# EAGLE library part LSM6DSO (library SparkFun-Sensors)
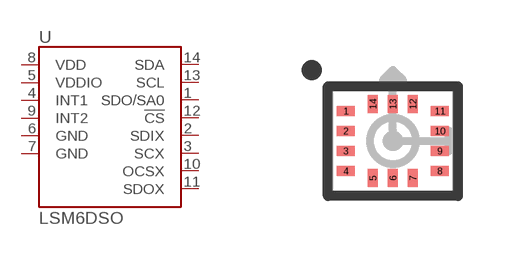
[diagram p64: symbol with the pads of LGA14L; footprint LGA14L]

Designator prefix U

## LSM6DSO (PROD_ID: IC-15837; VALUE: LSM6DS0)  [LGA14L]
1  SDO/SA0
2  SDIX
3  SCX
4  INT1
5  VDDIO
6  GND
7  GND
8  VDD
9  INT2
10  OCSX
11  SDOX
12  !CS!
13  SCL
14  SDA

## Footprint LGA14L (pad centres in mm)
smd 0.45 x 0.25: 1 -1.175,0.75; 2 -1.175,0.25; 3 -1.175,-0.25; 4 -1.175,-0.75; 8 1.175,-0.75; 9 1.175,-0.25; 10 1.175,0.25; 11 1.175,0.75
smd 0.25 x 0.45: 5 -0.5,-0.925; 6 0,-0.925; 7 0.5,-0.925; 12 0.5,0.925; 13 0,0.925; 14 -0.5,0.925